# Altium schematic symbol library IC_ATMEL_ATTINY84A.SchLib: 1 symbol
Pins are listed as number, name and electrical type; pins without a type are passive.

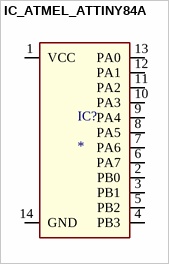
[diagram p0: symbol IC_ATMEL_ATTINY84A]

## IC_ATMEL_ATTINY84A
designator IC?
pins: 1 VCC, 2 PB0, 3 PB1, 4 PB3, 5 PB2, 6 PA7, 7 PA6, 8 PA5, 9 PA4, 10 PA3, 11 PA2, 12 PA1, 13 PA0, 14 GND